# Altium footprint library CANCurrentModuleLib.PcbLib: 1 footprints
Each footprint in its own frame and in the unit in brackets; x right, y up, seen from the top. Pads: shape width x height; smd on the part's side, far side on the other; paste and mask are expansions set on the pad; w line width, h text height; cw(c..) or ccw(c..) is an arc to the next point about the centre after c.
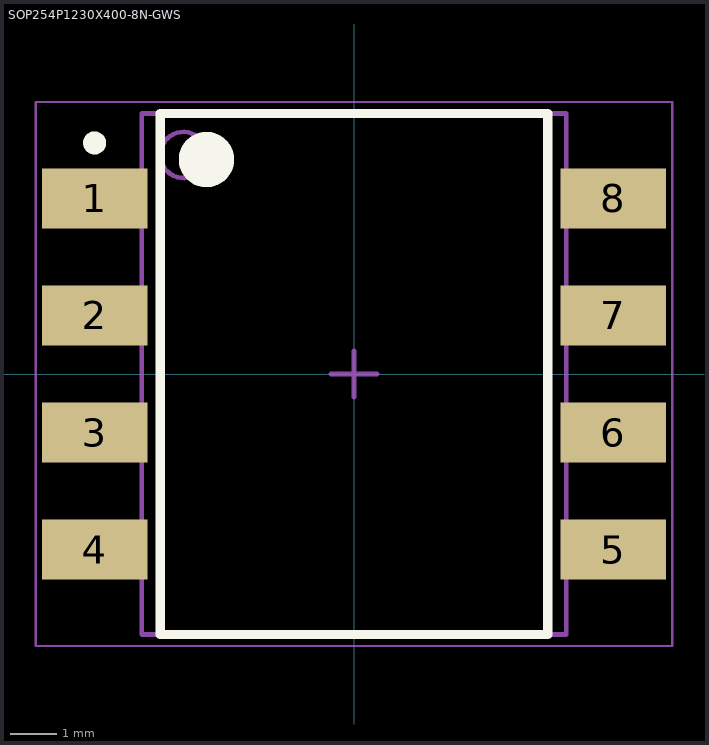
[diagram p0: the footprint, top view; thin cyan lines are the x and y axes]

## SOP254P1230X400-8N-GWS [mm] "SOP, 8-Leads, Body 11,15x8,95mm, Pitch 2,54mm, IPC Medium Density"
height 4
pads (8):
  rect 2.29x1.3 smd: 1(-5.625,3.81) 2(-5.625,1.27) 3(-5.625,-1.27) 4(-5.625,-3.81) 5(5.625,-3.81) 6(5.625,-1.27) 7(5.625,1.27) 8(5.625,3.81)
Top Overlay:
  circle w0.6: c-3.2,4.65 r0.3
  circle w0.25: c-5.625,5.01 r0.125
  lines w0.2: -4.2,-5.65 4.2,-5.65 4.2,5.65 -4.2,5.65 -4.2,-5.65
Mechanical 13:
  circle w0.1: c-3.7,4.75 r0.5
  lines w0.1: -4.6,-5.65 4.6,-5.65 4.6,5.65 -4.6,5.65 -4.6,-5.65
Mechanical 15:
  lines w0.05: -6.9,-5.9 6.9,-5.9 6.9,5.9 -6.9,5.9 -6.9,-5.9
  lines w0.1: -0.5,0 0.5,0 ; 0,-0.5 0,0.5
3D body "SOP254P1230X400-8N-GWS.step": height 4, standoff 0, extent -6.15,-5.65 6.15,5.65